# Altium footprint library Digital_Memory_Flash_NOR_SMD.PcbLib: 1 footprints
Each footprint in its own frame and in the unit in brackets; x right, y up, seen from the top. Pads: shape width x height; smd on the part's side, far side on the other; paste and mask are expansions set on the pad; w line width, h text height; cw(c..) or ccw(c..) is an arc to the next point about the centre after c.
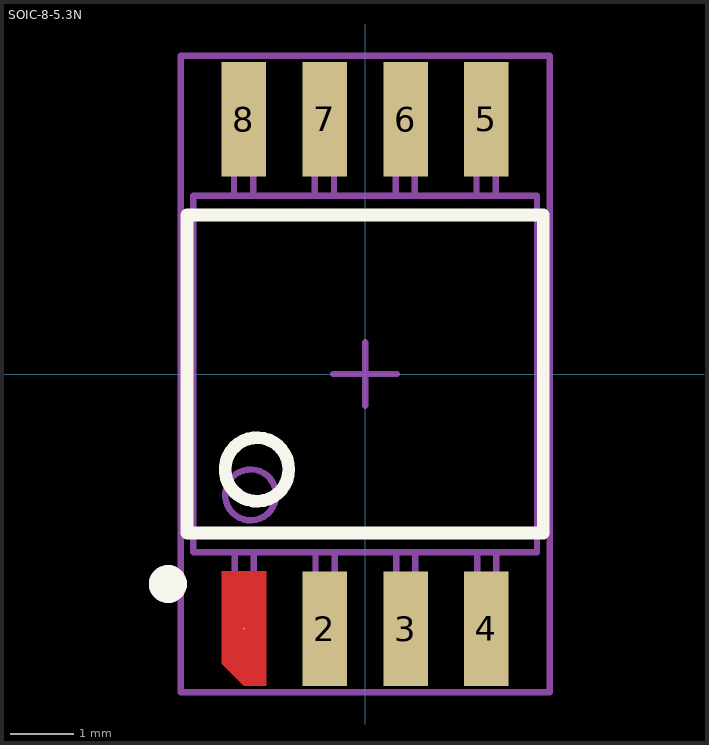
[diagram p0: the footprint, top view; thin cyan lines are the x and y axes]

## SOIC-8-5.3N [mm]
height 2.16
pads (8):
  round 0.025 smd: 1(-1.905,-4)
  rect 0.7x1.8 smd: 2(-0.635,-4) 3(0.635,-4) 4(1.905,-4) 5(1.905,4) 6(0.635,4) 7(-0.635,4) 8(-1.905,4)
Top Layer:
  region: -2.255,-3.1 -1.555,-3.1 -1.555,-4.9 -1.905,-4.9 -2.255,-4.55
Top Overlay:
  circle w0.3: c-3.1,-3.3 r0.15
  circle w0.2: c-1.7,-1.5 r0.5
  lines w0.2: -2.8,-2.5 -2.8,2.5 2.8,2.5 2.8,-2.5 -2.8,-2.5
Top Package:
  circle w0.1: c-1.8,-1.9 r0.4
  lines w0.1: -2.06,2.798 -2.06,4.1 -1.76,4.1 -1.76,2.798 ; -2.05,-2.798 -2.05,-4.1 -1.75,-4.1 -1.75,-2.798 ; -0.79,2.798 -0.79,4.1 -0.49,4.1 -0.49,2.798 ; -0.78,-2.798 -0.78,-4.1 -0.48,-4.1 -0.48,-2.798 ; 0.48,2.798 0.48,4.1 0.78,4.1 0.78,2.798 ; 0.49,-2.798 0.49,-4.1 0.79,-4.1 0.79,-2.798 ; 1.75,2.798 1.75,4.1 2.05,4.1 2.05,2.798 ; 1.76,-2.798 1.76,-4.1 2.06,-4.1 2.06,-2.798 ; -2.7,-2.8 -2.7,2.8 2.7,2.8 2.7,-2.8 -2.7,-2.8
Top Comment:
  text ".Comment" at -2.128,-0.474 h1.5
Top Designator:
  text ".Designator" at -3.438,-0.451 h2
Top Border:
  lines w0.1: -0.5,0 0.5,0 ; 0,-0.5 0,0.5 ; -2.9,-5 -2.9,5 2.9,5 2.9,-5 -2.9,-5
3D body "SOIC-8-W.step": height 1.75, standoff 0, extent -2.45,-3.7 2.45,3.7